# Altium footprint library Powerhub.PcbLib: 23 footprints (part 1 of 2)
Each footprint in its own frame and in the unit in brackets; x right, y up, seen from the top. Pads: shape width x height; smd on the part's side, far side on the other; paste and mask are expansions set on the pad; w line width, h text height; cw(c..) or ccw(c..) is an arc to the next point about the centre after c.
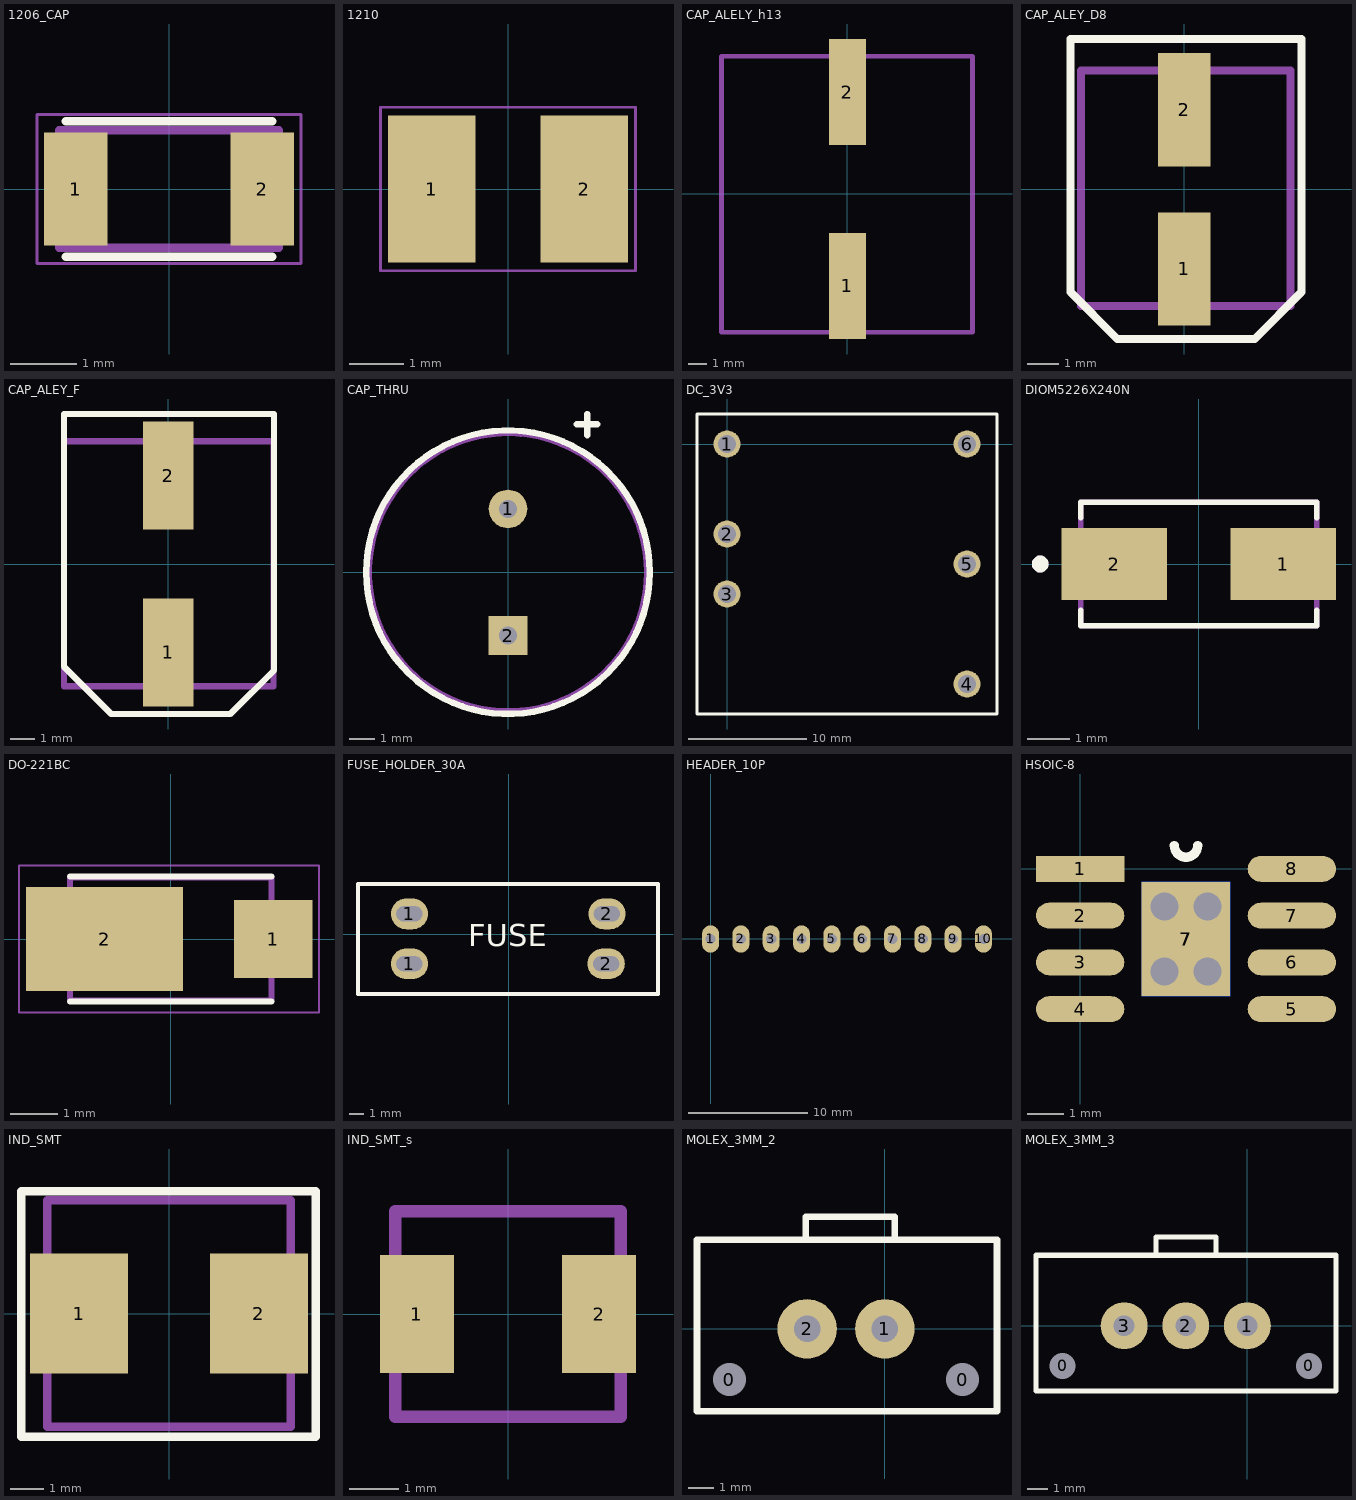
[diagram p0: the footprints below, top view; thin cyan lines are the x and y axes]

## 1206_CAP [mm] "RESC3115X65N"
pads (2):
  rect 0.95x1.7 smd: 1(-1.4,0) 2(1.4,0)
Top Overlay:
  lines w0.127: -1.551,-1.016 1.549,-1.016 ; -1.551,1.016 1.549,1.016
Mechanical 4:
  lines w0.127: -1.65,-0.88 -1.65,0.88 ; -1.65,-0.88 1.65,-0.88 ; -1.65,-0.88 -1.65,0.88 ; -1.65,-0.88 1.65,-0.88 ; -1.65,0.88 1.65,0.88 ; -1.65,0.88 1.65,0.88 ; 1.65,-0.88 1.65,0.88 ; 1.65,-0.88 1.65,0.88
Mechanical 16:
  lines w0.05: -1.981,-1.118 -1.981,1.118 1.981,1.118 1.981,-1.118 -1.981,-1.118

## 1210 [mm]
pads (2):
  rect 1.6x2.7 smd: 1(-1.4,0) 2(1.4,0)
Mechanical 16:
  lines w0.05: -2.337,-1.499 -2.337,1.499 2.337,1.499 2.337,-1.499 -2.337,-1.499

## CAP_ALELY_h13 [mil]
pads (2):
  rect 80x230 smd: 1(0,-200) 2(0,220)
Mechanical 1:
  lines w10: -273,-300 271,-300 271,298 -273,298 -273,-300
3D body "CAP_H13.stp": height 531.54, standoff 0, extent -265.74,-293.31 265.75,293.3
3D body: height 96.95, standoff -96.95, extent -1,-1 -1,-1

## CAP_ALEY_D8 [mil]
pads (2):
  rect 65x140 smd: 1(0,-98.43) 2(0,98.43)
Top Overlay:
  lines w10: -141,-127 -83,-185 87,-185 145,-127 145,186 -141,186 -141,-127
Mechanical 1:
  lines w10: -128,-144 131,-144 131,147 -128,147 -128,-144
3D body: height 96.95, standoff -96.95, extent -1,-1 -1,-1
3D body "CAP_D8.stp": height 303.19, standoff 0, extent -129.92,-143.7 129.92,143.7

## CAP_ALEY_F [mil]
pads (2):
  rect 80x170 smd: 1(0,-139.76) 2(0,139.76)
Top Overlay:
  lines w10: -165,-162 -165,237 167,237 167,-168 98,-237 -90,-237 -165,-162
Mechanical 1:
  lines w10: -165,-193 -165,194 166,194 166,-193 -165,-193
3D body: height 96.95, standoff -96.95, extent -1,-1 -1,-1
3D body "CAP_F.stp": height 401.61, standoff 0, extent -163.38,-190.95 163.39,190.94

## CAP_THRU [mil]
pads (2):
  round 60 hole 27.56: 1(0,98.43)
  rect 60x60 hole 27.56: 2(0,-98.43)
Top Overlay:
  circle w10: c0,0 r220.47
  lines w10: 107,230 139,230 ; 123,213 123,246
Mechanical 1:
  circle w10: c0,0 r216.54
3D body: height 433.07, standoff 0, extent -196.84,-196.84 196.86,196.86

## DC_3V3 [mil]
pads (6):
  round 90 hole 59: 1(0,0) 2(0,-300) 3(0,-500) 4(800,-800) 5(800,-400) 6(800,0)
Top Overlay:
  lines w10: -100,-900 -100,100 900,100 900,-900 -100,-900
3D body "CUI_PDQE15-Q24-S3-D.step": height 465.63, standoff -156.42, extent -100,-900 900,100

## DIOM5226X240N [mm]
pads (2):
  rect 2.5x1.7 smd: 1(2,0) 2(-2,0)
Top Overlay:
  circle w0.2: c-3.75,0 r0.1
  lines w0.127: -2.795,-1.095 -2.795,-1.46 2.795,-1.46 2.795,-1.095 ; -2.795,1.095 -2.795,1.46 2.795,1.46 2.795,1.095
Mechanical 4:
  circle w0.2: c-3.75,0 r0.1
  circle w0.2: c-3.75,0 r0.1
  lines w0.127: -2.795,-1.46 2.795,-1.46 ; -2.795,-1.46 -2.795,1.46 ; -2.795,-1.46 2.795,-1.46 ; -2.795,-1.46 -2.795,1.46 ; -2.795,1.46 2.795,1.46 ; -2.795,1.46 2.795,1.46 ; 2.795,-1.46 2.795,1.46 ; 2.795,-1.46 2.795,1.46
3D body "Diode SMA.stp": height 2.41, standoff 0, extent -2.64,-1.46 2.64,1.46

## DO-221BC [mil]
pads (2):
  rect 65x65 smd: 1(85,0)
  rect 130x86.61 smd: 2(-55,0)
Top Overlay:
  lines w5: -83.66,-51.97 83.66,-51.97 ; -83.66,51.97 83.66,51.97
Mechanical 4:
  lines w5: -83.66,-51.18 -83.66,51.18 ; -83.66,-51.18 83.66,-51.18 ; -83.66,-51.18 -83.66,51.18 ; -83.66,-51.18 83.66,-51.18 ; -83.66,51.18 83.66,51.18 ; -83.66,51.18 83.66,51.18 ; 83.66,-51.18 83.66,51.18 ; 83.66,-51.18 83.66,51.18
Mechanical 16:
  lines w1.97: -126,-61.02 -126,61.02 123,61.02 123,-61.02 -126,-61.02
3D body "DO-221BC.STEP": height 39.37, standoff 0, extent -101.16,-52.17 103.57,50.19

## FUSE_HOLDER_30A [mil]
pads (4):
  oval 100x83 hole 40 slot 70 at 0 deg: 1(-267,-79) 1(-267,55) 2(261,-79) 2(263,55)
Top Overlay:
  lines w10: -405,-160 -405,135 400,135 400,-160 -405,-160
  text "FUSE" at -109,-32 h60
3D body "keystone-PN3557-10.STEP": height 309.16, standoff -90.84, extent -392.83,-143.62 387.17,121.39

## HEADER_10P [mil] "100mil 10P header"
pads (10):
  oval 56x89.6 / inner round 60 / far side oval 56x89.6 hole 33.46: 1(0,0) 2(100,0) 3(200,0) 4(300,0) 5(400,0) 6(500,0) 7(600,0) 8(700,0) 9(800,0) 10(900,0)
Mechanical 8:
  region: 890,-10 890,10 910,10 910,-10
  region: -10,-10 -10,10 10,10 10,-10
  region: 90,-10 90,10 110,10 110,-10
  region: 190,-10 190,10 210,10 210,-10
  region: 290,-10 290,10 310,10 310,-10
  region: 390,-10 390,10 410,10 410,-10
  region: 490,-10 490,10 510,10 510,-10
  region: 590,-10 590,10 610,10 610,-10
  region: 690,-10 690,10 710,10 710,-10
  region: 790,-10 790,10 810,10 810,-10
3D body "Pin Header 1x10 TH Pitch 2.54mm.stp": height 106.98, standoff -392.85, extent -51.01,-50 948.99,50

## HSOIC-8 [mm]
pads (10):
  rect 2.4x0.7 smd: 1(0,0)
  oval 2.4x0.7 smd: 2(0,-1.27) 3(0,-2.54) 4(0,-3.81) 5(5.75,-3.81) 6(5.75,-2.54) 7(5.75,-1.27) 8(5.75,0)
  rect 2.4x3.1 smd: 7(2.87,-1.905)
  rect 2.4x3.1 smd far side: 7(2.875,-1.905)
via 2.286,-2.794 diameter 0.762 hole 0.762
via 3.454,-2.794 diameter 0.762 hole 0.762
via 2.286,-1.016 diameter 0.762 hole 0.762
via 3.454,-1.016 diameter 0.762 hole 0.762
Top Overlay:
  lines w0.254: 2.558,0.635 ccw(c2.875,0.635) 3.193,0.635
3D body "DDA0008E.stp": height 1.57, standoff 0, extent -0.125,-4.355 5.875,0.545

## IND_SMT [mil]
pads (2):
  rect 116.5x143 smd: 1(-107.25,0) 2(107.25,0)
Top Overlay:
  lines w10: -176,-147 175,-147 175,146 -176,146 -176,-147
Mechanical 1:
  lines w10: -145,-135 145,-135 145,135 -145,135 -145,-135
3D body "SRP7050TA.stp": height 181.1, standoff -13.78, extent -143.7,-129.92 143.7,129.92

## IND_SMT_s [mm]
pads (2):
  rect 1.5x2.388 smd: 1(-1.85,0) 2(1.85,0)
Mechanical 1:
  lines w0.254: 2.286,-2.083 -2.286,-2.083 -2.286,2.083 2.286,2.083 2.286,-2.057
3D body "SRP4020TA.stp": height 1.91, standoff 0, extent -2.139,-2.125 2.261,2.075

## MOLEX_3MM_2 [mil]
pads (4):
  round 40 hole 50: 0(-236,-77) 0(118,-77)
  round 90 hole 40: 1(0,0) 2(-118,0)
Top Overlay:
  lines w10: -120,135 -120,170 15,170 15,135 ; -285,-125 170,-125 170,135 -285,135 -285,-125
3D body "436500215.stp": height 394.88, standoff -120.08, extent -249.96,-95 129.96,125.67

## MOLEX_3MM_3 [mil] "Molex Microfit 3MM connector 3-pin"
pads (5):
  round 40 hole 50: 0(-354,-77) 0(118,-77)
  round 90 hole 40: 1(0,0) 2(-118,0) 3(-236,0)
Top Overlay:
  lines w10: -175,135 -175,170 -60,170 -60,135 ; -405,-125 170,-125 170,135 -405,135 -405,-125
3D body "436500315.stp": height 394.88, standoff -120.08, extent -367.01,-97.24 131.02,123.43